# EAGLE library part ATZB-24-A2 (library HomeKinection)
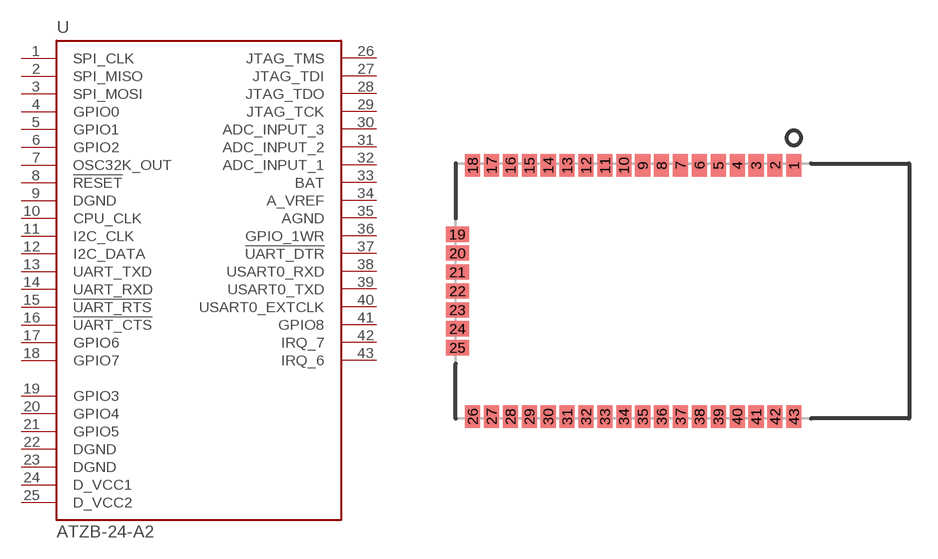
[diagram p0: symbol with the pads of ATZB-24-A2; footprint ATZB-24-A2]

Designator prefix -

## ATZB-24-A2  [ATZB-24-A2]
1  SPI_CLK  out
2  SPI_MISO
3  SPI_MOSI
4  GPIO0
5  GPIO1
6  GPIO2
7  OSC32K_OUT  out
8  !RESET  in
9  DGND  pwr
10  CPU_CLK  out
11  I2C_CLK  out
12  I2C_DATA
13  UART_TXD  in
14  UART_RXD  out
15  !UART_RTS  in
16  !UART_CTS  out
17  GPIO6
18  GPIO7
19  GPIO3
20  GPIO4
21  GPIO5
22  DGND  pwr
23  DGND  pwr
24  D_VCC1  pwr
25  D_VCC2  pwr
26  JTAG_TMS  in
27  JTAG_TDI  in
28  JTAG_TDO  out
29  JTAG_TCK  in
30  ADC_INPUT_3  in
31  ADC_INPUT_2  in
32  ADC_INPUT_1  in
33  BAT  in
34  A_VREF
35  AGND  pwr
36  GPIO_1WR
37  !UART_DTR  in
38  USART0_RXD  in
39  USART0_TXD  out
40  USART0_EXTCLK
41  GPIO8
42  IRQ_7  in
43  IRQ_6  in

## Footprint ATZB-24-A2 (pad centres in mm)
smd 0.8 x 1.2: 1 8.5,6.65; 2 7.5,6.65; 3 6.5,6.65; 4 5.5,6.65; 5 4.5,6.65; 6 3.5,6.65; 7 2.5,6.65; 8 1.5,6.65; 9 0.5,6.65; 10 -0.5,6.65; 11 -1.5,6.65; 12 -2.5,6.65; 13 -3.5,6.65; 14 -4.5,6.65; 15 -5.5,6.65; 16 -6.5,6.65; 17 -7.5,6.65; 18 -8.5,6.65; 26 -8.5,-6.65; 27 -7.5,-6.65; 28 -6.5,-6.65; 29 -5.5,-6.65; 30 -4.5,-6.65; 31 -3.5,-6.65; 32 -2.5,-6.65; 33 -1.5,-6.65; 34 -0.5,-6.65; 35 0.5,-6.65; 36 1.5,-6.65; 37 2.5,-6.65; 38 3.5,-6.65; 39 4.5,-6.65; 40 5.5,-6.65; 41 6.5,-6.65; 42 7.5,-6.65; 43 8.5,-6.65
smd 1.2 x 0.8: 19 -9.3,3; 20 -9.3,2; 21 -9.3,1; 22 -9.3,0; 23 -9.3,-1; 24 -9.3,-2; 25 -9.3,-3